# EAGLE library part 7-SEGMENT-DISPLAY-2-DIGIT (library podkommander)
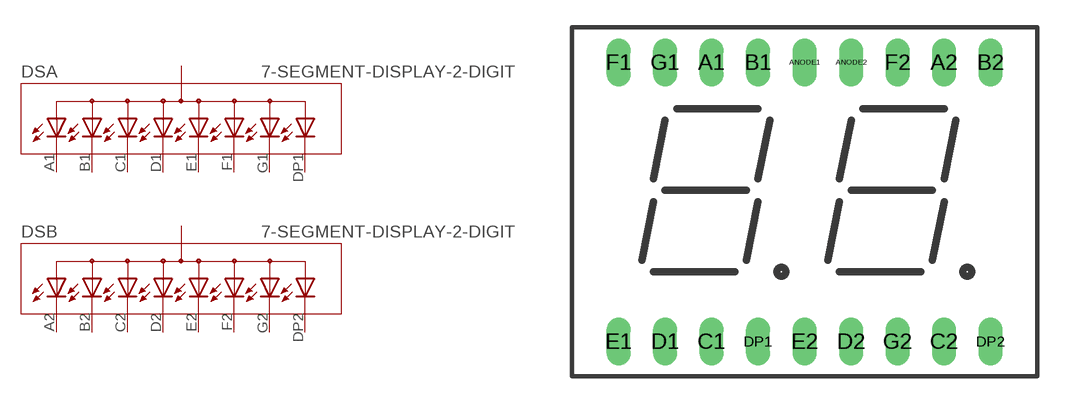
[diagram p1: symbol with the pads of LITE-ON-LTD-6710P-7-SEGMENT-LED-DISPLAY; footprint LITE-ON-LTD-6710P-7-SEGMENT-LED-DISPLAY]

Designator prefix DS; gates A=7-SEGMENT-LED-DISPLAY-DECIMAL-COM-ANODE B=7-SEGMENT-LED-DISPLAY-DECIMAL-COM-ANODE

## 7-SEGMENT-DISPLAY-2-DIGIT-6710P  [LITE-ON-LTD-6710P-7-SEGMENT-LED-DISPLAY]
A1  A:A  pas
A2  B:A  pas
ANODE1  A:ANODE  pas
ANODE2  B:ANODE  pas
B1  A:B  pas
B2  B:B  pas
C1  A:C  pas
C2  B:C  pas
D1  A:D  pas
D2  B:D  pas
DP1  A:DP  pas
DP2  B:DP  pas
E1  A:E  pas
E2  B:E  pas
F1  A:F  pas
F2  B:F  pas
G1  A:G  pas
G2  B:G  pas

## Footprint LITE-ON-LTD-6710P-7-SEGMENT-LED-DISPLAY (pad centres in mm)
drill 0.8 long: A1 -5.08,7.62; A2 7.62,7.62; ANODE1 0,7.62; ANODE2 2.54,7.62; B1 -2.54,7.62; B2 10.16,7.62; C1 -5.08,-7.62; C2 7.62,-7.62; D1 -7.62,-7.62; D2 2.54,-7.62; DP1 -2.54,-7.62; DP2 10.16,-7.62; E1 -10.16,-7.62; E2 0,-7.62; F1 -10.16,7.62; F2 5.08,7.62; G1 -7.62,7.62; G2 5.08,-7.62